# Altium schematic symbol library 1602元件.SCHLIB: 1 symbol
Pins are listed as number, name and electrical type; pins without a type are passive.

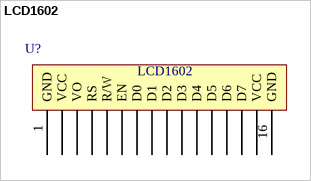
[diagram p0: symbol LCD1602]

## LCD1602
designator U?, comment LCD160  (value not drawn)
footprint LCD1602
pins: 1 GND (power), 2 VCC (power), 3 VO, 4 RS, 5 R/W, 6 EN, 7 D0, 8 D1, 9 D2, 10 D3, 11 D4, 12 D5, 13 D6, 14 D7, 15 VCC (power), 16 GND (power)